# EAGLE library part PIC16C* (library 00_cody)
MICROCONTROLLER PIC16C5X family: EPROM/ROM-based PIC16C55X family: EPROM-based PIC16C6X family PIC16CE62X family: analog comparators/EEPROM data memory PIC16C7X family: A/D converter PIC16C71X family: A/D converter PIC16F8X family: flash EEPROM Pin compatible devices: PIC16C154, PIC16CR154, PIC16C156, PIC16CR156, PIC16C158 PIC16CR158, PIC16C52, PIC16C54, PIC16C54A, PIC16CR54A PIC16C56, PIC16C58A, PIC16CR58A, PIC16C61, PIC16C554 PIC16C556, PIC16C558, PIC16C620, PIC16C621, PIC16C622 PIC16C641, PIC16C642, PIC16C661, PIC16C662, PIC16C71 PIC16C710, PIC16C711, PIC16C715, PIC126F83, PIC16CR83 PIC16F84A, PIC16CR84 see also PIC16F8* <DEVICE:PIC16F8*>
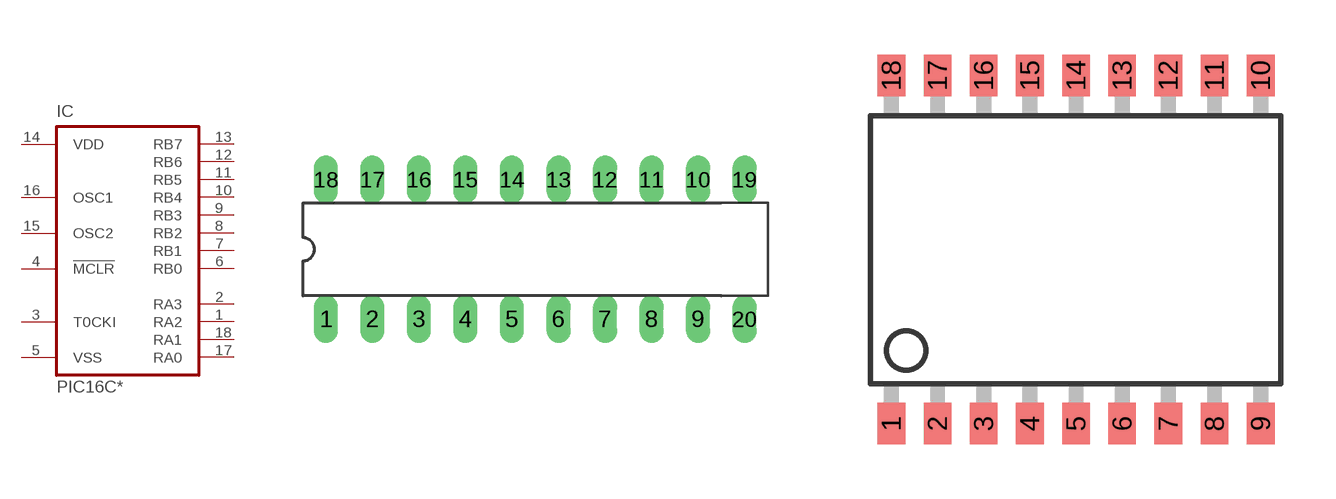
[diagram p0: symbol with the pads of DIL18; footprints DIL18, SO-18W]

Designator prefix IC

## PIC16C154P (OC_FARNELL: unknown; OC_NEWARK: unknown), PIC16C156P (OC_FARNELL: unknown; OC_NEWARK: unknown), PIC16C158P (OC_FARNELL: unknown; OC_NEWARK: unknown), PIC16C52P (OC_FARNELL: unknown; OC_NEWARK: unknown), PIC16C54P (MF: MICROCHIP; MPN: PIC16C54-RCI/P; OC_FARNELL: 1084285; OC_NEWARK: 23C3204), PIC16C54AP (MF: MICROCHIP; MPN: PIC16C54A-04/P; OC_FARNELL: 1196847; OC_NEWARK: 61K3438), PIC16C55P (MF: MICROCHIP; MPN: PIC16C558-04/P; OC_FARNELL: 1084353; OC_NEWARK: 96K3797), PIC16C554P (MF: MICROCHIP; MPN: PIC16C554-04I/P; OC_FARNELL: 9759204; OC_NEWARK: 23C3455), PIC16C556P (OC_FARNELL: unknown; OC_NEWARK: unknown), PIC16C558P (MPN: PIC16C558-20/P; OC_FARNELL: 9759220; OC_NEWARK: 97K7200), PIC16C56P (MF: MICROCHIP; MPN: PIC16C56-HS/P; OC_FARNELL: 1084307; OC_NEWARK: 23C3511), PIC16C58AP (MF: MICROCHIP; MPN: PIC16C58B-04/P; OC_FARNELL: 9759417; OC_NEWARK: 23C3736), PIC16C61P (OC_FARNELL: unknown; OC_NEWARK: unknown), PIC16C620P (MPN: PIC16C620-04/P; OC_FARNELL: 1196828; OC_NEWARK: 24M5866), PIC16C621P (MF: MICROCHIP; MPN: PIC16C621-04I/P; OC_FARNELL: 1196829; OC_NEWARK: 23C3904), PIC16C622P (MF: MICROCHIP; MPN: PIC16C622A-04I/P; OC_FARNELL: 9759549; OC_NEWARK: 23C3984), PIC16C641P (OC_FARNELL: unknown; OC_NEWARK: unknown), PIC16C661P (OC_FARNELL: unknown; OC_NEWARK: unknown), PIC16C71P (MF: MICROCHIP; MPN: PIC16C71-20I/P; OC_FARNELL: 1196825; OC_NEWARK: 73K1290), PIC16C710P (MF: MICROCHIP; MPN: PIC16C71-04/P; OC_FARNELL: 9759778; OC_NEWARK: 69K7626), PIC16C711P (MF: MICROCHIP; MPN: PIC16C711-04I/P; OC_FARNELL: 1084359; OC_NEWARK: 68K5331), PIC16C715P (MPN: PIC16C715-20/P; OC_FARNELL: 1084360; OC_NEWARK: 97K7271), PIC16C84P (OC_FARNELL: unknown; OC_NEWARK: unknown), PIC16CF83P (OC_FARNELL: unknown; OC_NEWARK: unknown), PIC16CR154P (OC_FARNELL: unknown; OC_NEWARK: unknown), PIC16CR156P (OC_FARNELL: unknown; OC_NEWARK: unknown), PIC16CR158P (OC_FARNELL: unknown; OC_NEWARK: unknown), PIC16CR54P (OC_FARNELL: unknown; OC_NEWARK: unknown), PIC16CR54AP (OC_FARNELL: unknown; OC_NEWARK: unknown), PIC16CR58AP (OC_FARNELL: unknown; OC_NEWARK: unknown), PIC16CR83P (OC_FARNELL: unknown; OC_NEWARK: unknown), PIC16CR84P (OC_FARNELL: unknown; OC_NEWARK: unknown)  [DIL18]
1  RA2
2  RA3
3  T0CKI  in
4  !MCLR  in
5  VSS  pwr
6  RB0
7  RB1
8  RB2
9  RB3
10  RB4
11  RB5
12  RB6
13  RB7
14  VDD  pwr
15  OSC2  out
16  OSC1  in
17  RA0
18  RA1

## PIC16C154SO (OC_FARNELL: unknown; OC_NEWARK: unknown), PIC16C156SO (OC_FARNELL: unknown; OC_NEWARK: unknown), PIC16C158SO (OC_FARNELL: unknown; OC_NEWARK: unknown), PIC16C52SO (OC_FARNELL: unknown; OC_NEWARK: unknown), PIC16C54SO (MF: MICROCHIP; MPN: PIC16C54-XT/SO; OC_FARNELL: 9759182; OC_NEWARK: 23C3207), PIC16C54ASO (MF: MICROCHIP; MPN: PIC16C54A-04I/SO; OC_FARNELL: 1084342; OC_NEWARK: 23C3231), PIC16C55SO (OC_FARNELL: unknown; OC_NEWARK: unknown), PIC16C554SO (MPN: PIC16C554-04/SO; OC_FARNELL: 1084352; OC_NEWARK: 97K7196), PIC16C556SO (OC_FARNELL: unknown; OC_NEWARK: unknown), PIC16C558SO (MF: MICROCHIP; MPN: PIC16C558-04/SO; OC_FARNELL: unknown; OC_NEWARK: 23C3481), PIC16C58ASO (OC_FARNELL: unknown; OC_NEWARK: unknown), PIC16C61SO (OC_FARNELL: unknown; OC_NEWARK: unknown), PIC16C620SO (MF: MICROCHIP; MPN: PIC16C620-04/SO; OC_FARNELL: 9759468; OC_NEWARK: 23C3838), PIC16C621SO (MF: MICROCHIP; MPN: PIC16C621-04I/SO; OC_FARNELL: 9759492; OC_NEWARK: 23C3905), PIC16C622SO (MF: MICROCHIP; MPN: PIC16C622A-04I/SO; OC_FARNELL: 9759522; OC_NEWARK: 23C3985), PIC16C71SO (OC_FARNELL: unknown; OC_NEWARK: unknown), PIC16C710SO (MF: MICROCHIP; MPN: PIC16C710-20/SO; OC_FARNELL: unknown; OC_NEWARK: 23C4447), PIC16C711SO (MF: MICROCHIP; MPN: PIC16C711-20/SO; OC_FARNELL: 9759808; OC_NEWARK: 12C1918), PIC16C715SO (MF: MICROCHIP; MPN: PIC16C715-04I/SO; OC_FARNELL: 1084362; OC_NEWARK: 23C4530), PIC16C84SO (OC_FARNELL: unknown; OC_NEWARK: unknown), PIC16CR154SO (OC_FARNELL: unknown; OC_NEWARK: unknown), PIC16CR156SO (OC_FARNELL: unknown; OC_NEWARK: unknown), PIC16CR158SO (OC_FARNELL: unknown; OC_NEWARK: unknown), PIC16CR54SO (OC_FARNELL: unknown; OC_NEWARK: unknown), PIC16CR54ASO (OC_FARNELL: unknown; OC_NEWARK: unknown), PIC16CR58ASO (OC_FARNELL: unknown; OC_NEWARK: unknown), PIC16CR83SO (OC_FARNELL: unknown; OC_NEWARK: unknown), PIC16CR84SO (OC_FARNELL: unknown; OC_NEWARK: unknown)  [SO-18W]
Pads as for DIL18

## Footprint DIL18 (pad centres in mm)
Dual In Line package type P
drill 0.813 long: 1 -10.16,-3.81; 2 -7.62,-3.81; 3 -5.08,-3.81; 4 -2.54,-3.81; 5 0,-3.81; 6 2.54,-3.81; 7 5.08,-3.81; 8 7.62,-3.81; 9 10.16,-3.81; 10 10.16,3.81; 11 7.62,3.81; 12 5.08,3.81; 13 2.54,3.81; 14 0,3.81; 15 -2.54,3.81; 16 -5.08,3.81; 17 -7.62,3.81; 18 -10.16,3.81; 19 12.7,3.81; 20 12.7,-3.81

## Footprint SO-18W (pad centres in mm)
Small Outline Wide Plastic Gull Wing 300-mil body, package type SO
smd 0.762 x 1.143: 1 -5.08,-4.788; 2 -3.81,-4.788; 3 -2.54,-4.788; 4 -1.27,-4.788; 5 0,-4.788; 6 1.27,-4.788; 7 2.54,-4.788; 8 3.81,-4.788; 9 5.08,-4.788; 10 5.08,4.788; 11 3.81,4.788; 12 2.54,4.788; 13 1.27,4.788; 14 0,4.788; 15 -1.27,4.788; 16 -2.54,4.788; 17 -3.81,4.788; 18 -5.08,4.788